# EAGLE library part TRANS_ER29 (library SpeccyPower5v)
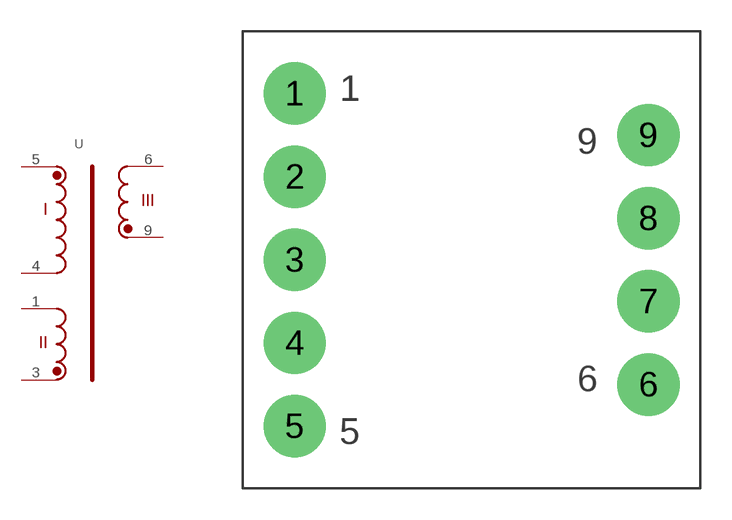
[diagram p0: symbol with the pads of ER29; footprint ER29]

Designator prefix -

## TRANS_ER29  [ER29]
1  OP1
3  OP2
4  IN1
5  IN2
6  5V1
9  5V2

## Footprint ER29 (pad centres in mm)
drill 1 pad 3: 1 -8.5,8; 2 -8.5,4; 3 -8.5,0; 4 -8.5,-4; 5 -8.5,-8; 6 8.5,-6; 7 8.5,-2; 8 8.5,2; 9 8.5,6